# EAGLE library part SL55004 (library logick)
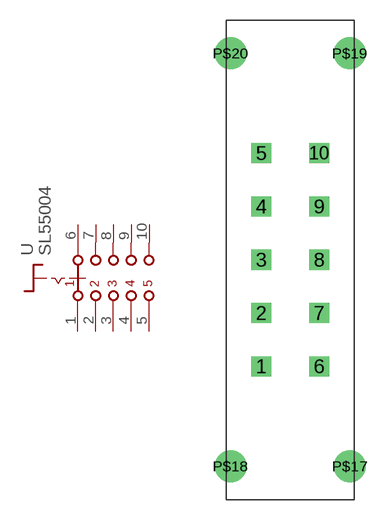
[diagram p3: symbol with the pads of SL55004; footprint SL55004]

Designator prefix -

## SL55004  [SL55004]
1  1  pas
2  2  pas
3  3  pas
4  4  pas
5  5  pas
6  C1  pas
7  C2  pas
8  C3  pas
9  C4  pas
10  C5  pas

## Footprint SL55004 (pad centres in mm)
drill 1 square: 1 -2.17,-8; 2 -2.17,-4; 3 -2.17,0; 4 -2.17,4; 5 -2.17,8; 6 2.17,-8; 7 2.17,-4; 8 2.17,0; 9 2.17,4; 10 2.17,8
drill 1.6: P$17 4.475,-15.5; P$18 -4.475,-15.5; P$19 4.475,15.5; P$20 -4.475,15.5